# EAGLE library part SW-DPDT-I2C (library magzor)
DEPRECATED FOR NEW DESIGNS – Matlock
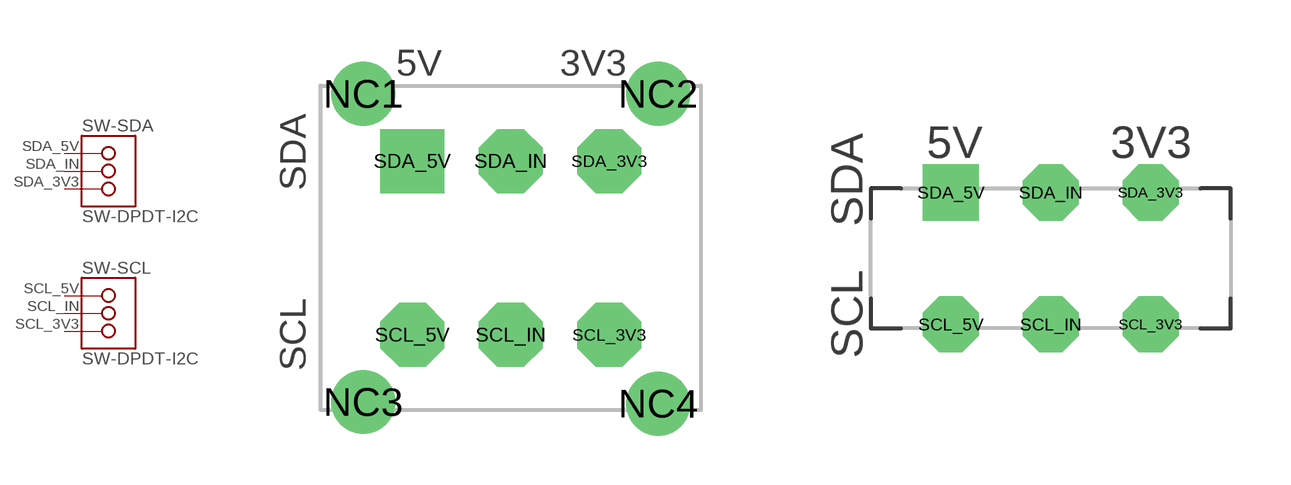
[diagram p17: symbol with the pads of OS202013MT5QN1-I2C; footprints OS202013MT5QN1-I2C, JS202011CQN-I2C]

Designator prefix SW; gates -SDA=HEADER-1X03 -SCL=HEADER-1X03

## SW-DPDT-I2C-OS2020  [OS202013MT5QN1-I2C]
SCL_3V3  -SCL:3
SCL_5V  -SCL:1
SCL_IN  -SCL:2
SDA_3V3  -SDA:3
SDA_5V  -SDA:1
SDA_IN  -SDA:2

## SW-DPDT-I2C-JS2020  [JS202011CQN-I2C]
Pads as for OS202013MT5QN1-I2C

## Footprint OS202013MT5QN1-I2C (pad centres in mm)
C&K DPDT slide switch 11.6mm x 9.9mm; I2C 5V/3V3 level selector switch
drill 1.3 pad 1.676: NC1 -4.5,4.7
drill 1.3: NC2 4.5,4.7; NC3 -4.5,-4.7; NC4 4.5,-4.75
drill 1.3 octagon: SCL_3V3 3,-2.65; SCL_5V -3,-2.65; SCL_IN 0,-2.65; SDA_3V3 3,2.65; SDA_IN 0,2.65
drill 1.3 pad 1.778 square: SDA_5V -3,2.65

## Footprint JS202011CQN-I2C (pad centres in mm)
C&K DPDT slide switch, 9mm x 3.5mm; I2C level switch
drill 0.9 octagon: SCL_3V3 2.5,-1.65; SCL_5V -2.5,-1.65; SCL_IN 0,-1.65; SDA_3V3 2.5,1.65; SDA_IN 0,1.65
drill 0.9 square: SDA_5V -2.5,1.65